# Altium schematic symbol library SCH - POWER - SWITCHMODE - TI TPS62824ADMQ.SchLib: 1 symbol
Pins are listed as number, name and electrical type; pins without a type are passive.

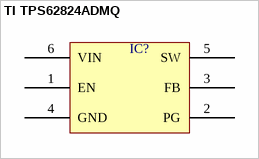
[diagram p0: symbol TI TPS62824ADMQ]

## TI TPS62824ADMQ
designator IC?  (value not drawn)
pins: 1 EN, 2 PG, 3 FB, 4 GND, 5 SW, 6 VIN